# Altium footprint library PcbLib1.PcbLib: 6 footprints
Each footprint in its own frame and in the unit in brackets; x right, y up, seen from the top. Pads: shape width x height; smd on the part's side, far side on the other; paste and mask are expansions set on the pad; w line width, h text height; cw(c..) or ccw(c..) is an arc to the next point about the centre after c.
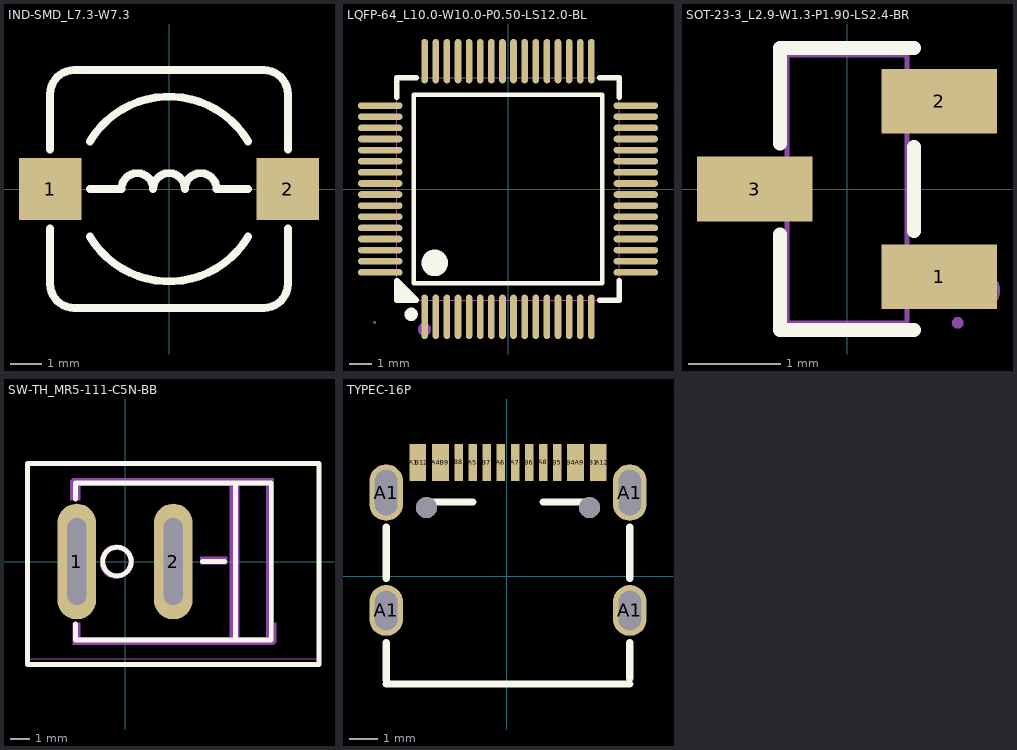
[diagram p0: the footprints below, top view; thin cyan lines are the x and y axes]

## IND-SMD_L7.3-W7.3 [mm] "7.3*7.3*3.4mm（长宽高）"
pads (2):
  rect 2x2 smd: 1(-3.81,0) 2(3.81,0)
Top Overlay:
  lines w0.254: -3.81,-1.27 -3.81,-3.048 ccw(c-3.048,-3.048) -3.048,-3.81 3.048,-3.81 ccw(c3.048,-3.048) 3.81,-3.048 3.81,-1.27 ; -3.81,1.27 -3.81,3.048 cw(c-3.048,3.048) -3.048,3.81 3.048,3.81 cw(c3.048,3.048) 3.81,3.048 3.81,1.27 ; -2.54,-1.524 ccw(c0,0) 2.54,-1.524 ; -2.54,0 -1.524,0 cw(c-1.016,0) -0.508,0 cw(c0,0) 0.508,0 cw(c1.016,0) 1.524,0 2.54,0 ; -2.54,1.524 cw(c0,0) 2.54,1.524
3D body "CDRH73.STEP": height 3.65, standoff 0, extent -3.65,-3.65 3.65,3.65

## LQFP-64_L10.0-W10.0-P0.50-LS12.0-BL [mm]
pads (64):
  oval 0.3x2 smd paste+0 mask+0.051: 1(-3.75,-5.75) 2(-3.25,-5.75) 3(-2.75,-5.75) 4(-2.25,-5.75) 5(-1.75,-5.75) 6(-1.25,-5.75) 7(-0.75,-5.75) 8(-0.25,-5.75) 9(0.25,-5.75) 10(0.75,-5.75) 11(1.25,-5.75) 12(1.75,-5.75) 13(2.25,-5.75) 14(2.75,-5.75) 15(3.25,-5.75) 16(3.75,-5.75) 33(3.75,5.75) 34(3.25,5.75) 35(2.75,5.75) 36(2.25,5.75) 37(1.75,5.75) 38(1.25,5.75) 39(0.75,5.75) 40(0.25,5.75) 41(-0.25,5.75) 42(-0.75,5.75) 43(-1.25,5.75) 44(-1.75,5.75) 45(-2.25,5.75) 46(-2.75,5.75) 47(-3.25,5.75) 48(-3.75,5.75)
  oval 2x0.3 smd paste+0 mask+0.051: 17(5.75,-3.75) 18(5.75,-3.25) 19(5.75,-2.75) 20(5.75,-2.25) 21(5.75,-1.75) 22(5.75,-1.25) 23(5.75,-0.75) 24(5.75,-0.25) 25(5.75,0.25) 26(5.75,0.75) 27(5.75,1.25) 28(5.75,1.75) 29(5.75,2.25) 30(5.75,2.75) 31(5.75,3.25) 32(5.75,3.75) 49(-5.75,3.75) 50(-5.75,3.25) 51(-5.75,2.75) 52(-5.75,2.25) 53(-5.75,1.75) 54(-5.75,1.25) 55(-5.75,0.75) 56(-5.75,0.25) 57(-5.75,-0.25) 58(-5.75,-0.75) 59(-5.75,-1.25) 60(-5.75,-1.75) 61(-5.75,-2.25) 62(-5.75,-2.75) 63(-5.75,-3.25) 64(-5.75,-3.75)
Top Overlay:
  region: -4.131,-5 -5,-4.131 -5,-5
  lines w0.2: -4.25,-4.25 -4.25,4.25 4.25,4.25 4.25,-4.25 -4.25,-4.25
  lines w0.254: -5,4.131 -5,5 -4.131,5 ; 4.131,-5 5,-5 5,-4.131 ; 4.131,5 5,5 5,4.131 ; -5,-4.131 -5,-4.131 ; -5,-4.131 -4.131,-5 -5,-5 -5,-4.131
  lines w0.3: -4.361,-5.49 ccw(c-4.36,-5.64) -4.359,-5.49
  lines w0.6: -3.299,-3.025 ccw(c-3.297,-3.325) -3.294,-3.025
Mechanical 6:
  circle w0.3: c-3.76,-6.32 r0.15
Mechanical 15:
  drawing of 133 lines, arcs and shapes, not listed

## PCBComponent_1 [mm]

## SOT-23-3_L2.9-W1.3-P1.90-LS2.4-BR [mm]
pads (3):
  rect 1.25x0.7 smd mask+0.051: 1(1,-0.95) 2(1,0.95) 3(-1,0)
Top Overlay:
  lines w0.152: -0.726,-0.495 -0.726,-1.526 0.726,-1.526 ; -0.726,0.495 -0.726,1.526 0.726,1.526 ; 0.726,-0.455 0.726,0.455
Mechanical 6:
  circle w0.2: c1.46,-1.1 r0.1
Mechanical 15:
  region: 0.64,0.735 0.64,1.165 0.91,1.165 0.91,0.735
  region: 0.9,0.735 0.9,1.165 1.2,1.165 1.2,0.735
  region: 0.64,-1.165 0.64,-0.735 0.91,-0.735 0.91,-1.165
  region: 0.9,-1.165 0.9,-0.735 1.2,-0.735 1.2,-1.165
  region: -0.91,-0.215 -0.91,0.215 -0.64,0.215 -0.64,-0.215
  region: -1.2,-0.215 -1.2,0.215 -0.9,0.215 -0.9,-0.215
  region: 1.26,-1.45 1.26,-1.425 1.225,-1.39 1.175,-1.39 1.14,-1.425 1.14,-1.45 1.14,-1.475 1.175,-1.51 1.225,-1.51 1.26,-1.475
  lines w0.051: -0.65,-1.45 -0.65,1.45 0.65,1.45 0.65,-1.45 -0.65,-1.45

## SW-TH_MR5-111-C5N-BB [mm]
pads (2):
  oval 2x6 hole 1 slot 4.5 at 90 deg paste+0 mask+0.051: 1(-2.5,0) 2(2.5,0)
Top Overlay:
  circle w0.254: c-0.421,0 r0.741
  lines w0.254: -2.58,-3.229 -2.58,-3.683 -2.58,-4.064 7.58,-4.064 7.58,-3.229 ; -2.58,3.229 -2.58,4.064 7.58,4.064 7.58,3.229 7.58,-3.302 ; 4.024,0 5.167,0 ; 5.721,-4.064 5.721,4.064 ; -5.057,-5.334 10.056,-5.334 10.056,5.08 -5.057,5.08 -5.057,-5.334
Mechanical 6:
  region: -0.421,-0.635 -0.3,-0.623 -0.076,-0.53 0.095,-0.359 0.188,-0.135 0.2,-0.014 0.2,0 0.188,0.119 0.097,0.339 -0.071,0.507 -0.291,0.598 -0.41,0.61 -0.48,0.61 -0.589,0.599 -0.791,0.516 -0.946,0.361 -1.029,0.159 -1.04,0.05 -1.04,-0.01 -1.04,-0.05 -1.029,-0.159 -0.946,-0.361 -0.791,-0.516 -0.589,-0.599 -0.48,-0.61 -0.48,-0.88 -0.56,-0.88 -0.716,-0.849 -0.864,-0.788 -0.996,-0.699 -1.109,-0.586 -1.198,-0.454 -1.259,-0.306 -1.29,-0.15 -1.29,-0.07 -1.29,0.02 -1.29,0.03 -1.29,0.114 -1.257,0.278 -1.193,0.433 -1.1,0.572 -0.982,0.69 -0.843,0.783 -0.688,0.847 -0.524,0.88 -0.44,0.88 -0.353,0.88 -0.183,0.846 -0.023,0.78 0.121,0.684 0.244,0.561 0.34,0.417 0.406,0.257 0.44,0.087 0.44,0 0.44,-0.086 0.407,-0.254 0.341,-0.412 0.246,-0.555 0.125,-0.676 -0.018,-0.771 -0.176,-0.837 -0.344,-0.87 -0.43,-0.87
  region: 3.897,-0.127 5.294,-0.127 5.294,0.254 4.024,0.254 3.897,0.127 3.897,0.254 4.024,0.254 3.897,0.127
  region: 7.326,-3.175 7.326,-3.937 -2.326,-3.937 -2.326,-3.175 -2.707,-3.175 -2.707,-4.318 7.707,-4.318 7.834,-4.191 7.834,-3.175 7.707,-3.175
  region: 5.929,4.064 5.929,-4.064 5.421,-4.064 5.421,3.937
  region: -2.326,3.175 -2.326,3.937 7.326,3.937 7.326,-3.175 7.707,-3.175 7.707,4.318 -2.707,4.318 -2.834,4.191 -2.834,3.175 -2.707,3.175
Mechanical 15:
  region: -4.99,-5.05 -4.99,-5.025 -5.025,-4.99 -5.075,-4.99 -5.11,-5.025 -5.11,-5.05 -5.11,-5.075 -5.075,-5.11 -5.025,-5.11 -4.99,-5.075 -4.99,-5.05
  region: -2.3,-1.85 -2.7,-1.85 -2.7,1.85 -2.3,1.85
  region: 2.7,-1.85 2.3,-1.85 2.3,1.85 2.7,1.85
  lines w0.051: -5.05,-5.05 -5.05,5.05 10.05,5.05 10.05,-5.05 -5.05,-5.05

## TYPEC-16P [mm]
pads (22):
  oval 1.2x1.8 hole 0.8 slot 1.4 at 90 deg: A1(-4.28,-1.207) A1(4.36,-1.207)
  oval 1.2x2 hole 0.8 slot 1.6 at 90 deg: A1(-4.28,2.973) A1(4.36,2.973)
  rect 0.3x1.3 smd mask+0.051: A1(-3.31,4.04) A4(-2.51,4.04) A5(-1.21,4.04) A6(-0.21,4.04) A7(0.29,4.04) A8(1.29,4.041) A9(2.59,4.04) A12(3.39,4.04) B1(3.09,4.04) B4(2.29,4.04) B5(1.79,4.04) B6(0.79,4.04) B7(-0.71,4.04) B8(-1.71,4.041) B9(-2.21,4.04) B12(-3.012,4.04)
  round 0.75 hole 0.75 unplated: ""(-2.85,2.443) ""(2.93,2.443)
Top Overlay:
  lines w0.254: -4.28,-3.81 4.36,-3.81 ; -4.28,-3.674 -4.28,-2.339 ; -4.28,-0.076 -4.28,1.741 ; -2.96,2.638 -1.21,2.638 ; 1.287,2.64 3.037,2.64 ; 4.36,-3.623 4.36,-2.339 ; 4.36,-0.076 4.36,1.741
3D body "USB Type C(SMD Type).stp": height 3.13, standoff -1.07, extent -4.419,-3.95 4.521,3.95